# EAGLE library part TUXGR_16X2_R2 (library display-lcd2)
Tuxgraphics LCD display 16x2 characters reflective, without background light Source: tuxgr_12x2_r2.pdf
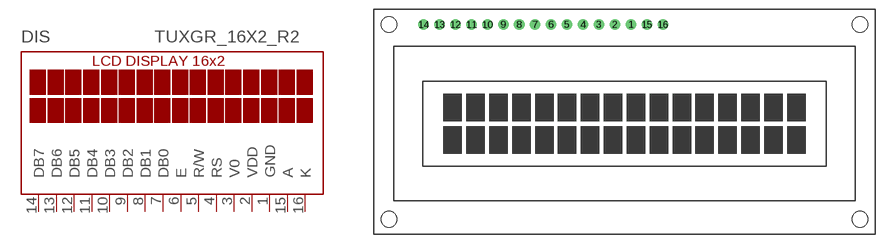
[diagram p0: symbol with the pads of TUXGR_16X2_R2; footprint TUXGR_16X2_R2]

Designator prefix DIS

## TUXGR_16X2_R2 (OC_FARNELL: unknown; OC_NEWARK: unknown)  [TUXGR_16X2_R2]
1  GND  pwr
2  VDD  pwr
3  V0  in
4  RS  in
5  R/W  in
6  E  in
7  DB0  in
8  DB1  in
9  DB2  in
10  DB3  in
11  DB4  in
12  DB5  in
13  DB6  in
14  DB7  in
15  A  nc
16  K  nc

## Footprint TUXGR_16X2_R2 (pad centres in mm)
Tuxgraphics LCD display 16x2 characters reflective, without background light Source: tuxgr_12x2_r2.pdf
drill 1 pad 1.676: 1 1.02,15.5; 2 -1.52,15.5; 3 -4.06,15.5; 4 -6.6,15.5; 5 -9.14,15.5; 6 -11.68,15.5; 7 -14.22,15.5; 8 -16.76,15.5; 9 -19.3,15.5; 10 -21.84,15.5; 11 -24.38,15.5; 12 -26.92,15.5; 13 -29.46,15.5; 14 -32,15.5; 15 3.56,15.5; 16 6.1,15.5
hole 2.5 at -37.5,-15.5
hole 2.5 at 37.5,-15.5
hole 2.5 at -37.5,15.5
hole 2.5 at 37.5,15.5